# Altium footprint library 三极管.PcbLib: 9 footprints
Each footprint in its own frame and in the unit in brackets; x right, y up, seen from the top. Pads: shape width x height; smd on the part's side, far side on the other; paste and mask are expansions set on the pad; w line width, h text height; cw(c..) or ccw(c..) is an arc to the next point about the centre after c.
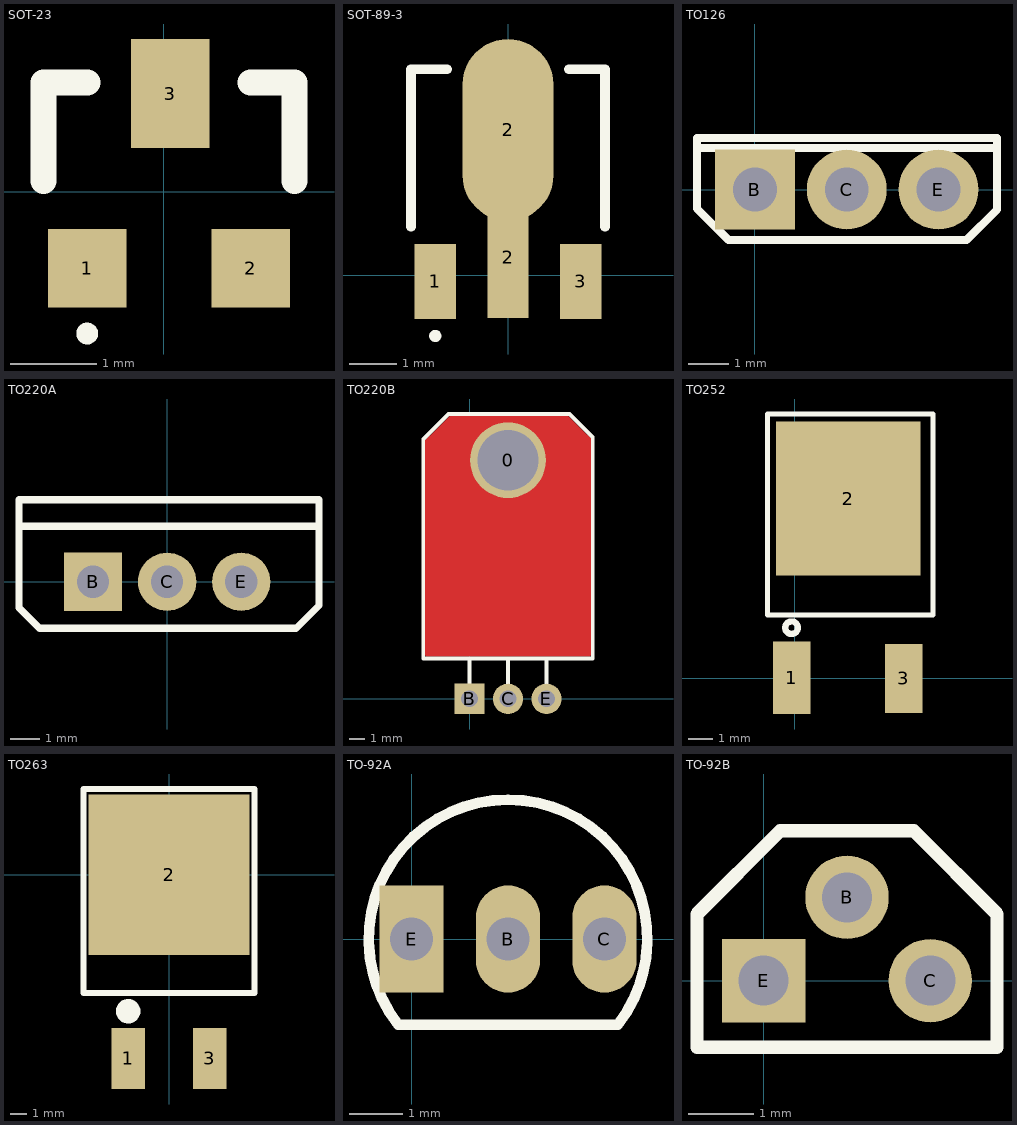
[diagram p0: the footprints below, top view; thin cyan lines are the x and y axes]

## SOT-23 [mil]
pads (3):
  rect 36x36 smd: 1(-35,-35) 2(40,-35)
  rect 36x50 smd: 3(3,45)
Top Overlay:
  circle w5: c-35,-65 r2.5
  lines w12: -55,5 -55,50 -35,50 ; 40,50 60,50 60,5
3D body "SOT-23-3.STEP": height 47.24, standoff 0, extent -54.08,-48.11 60.09,62.12

## SOT-89-3 [mil]
pads (4):
  rect 34x62 smd: 1(-60,-5) 3(60,-5)
  rect 34x100 smd: 2(0,15)
  oval 74.8x150 smd: 2(0,120)
Top Overlay:
  circle w5: c-60,-50 r2.5
  lines w8: -80,40 -80,170 -50,170 ; 50,170 80,170 80,40
3D body "SOT-89.STEP": height 59.45, standoff 0, extent -88.58,-12.99 88.59,156.3

## TO126 [mm] "126晶体管"
pads (3):
  rect 2x2 hole 1.1: B(0,0)
  round 2 hole 1.1: C(2.3,0) E(4.6,0)
Top Overlay:
  lines w0.2: -1.434,1.041 6.034,1.041 ; -1.452,-0.48 -0.664,-1.268 5.305,-1.268 6.067,-0.506 6.067,1.295 -1.452,1.295 -1.452,-0.48
3D body "23.STEP": height 15, standoff -4, extent -1.7,-1.27 6.3,1.53

## TO220A [mm] "220，3脚晶体管"
pads (3):
  rect 2x2 hole 1.1: B(-2.54,0)
  round 2 hole 1.1: C(0,0) E(2.54,0)
Top Overlay:
  lines w0.254: -4.928,1.905 5.131,1.905 ; -5.08,-0.889 -4.369,-1.6 4.42,-1.6 5.207,-0.813 5.207,2.819 -5.08,2.819 -5.08,-0.889
3D body "4.STEP": height 18.5, standoff -4, extent -5.08,-1.453 5.22,2.977

## TO220B [mm] "220，3脚晶体管"
pads (4):
  round 5 hole 4: 0(2.54,15.748)
  rect 2x2 hole 1.1: B(0,0)
  round 2 hole 1.1: C(2.54,0) E(5.08,0)
Top Layer:
  rectangle: 6.35,17.526 6.985,18.034
  rectangle: 6.985,16.891 7.683,17.335
  rectangle: -2.286,17.018 -2.032,17.526
  rectangle: -1.778,17.653 -1.27,18.034
  rectangle: -2.032,16.891 -1.27,17.653
  rectangle: 6.604,16.891 7.239,17.78
  rectangle: -1.27,16.891 6.604,18.542
  rectangle: -2.794,2.921 7.874,17.018
  lines w0.254: -2.667,16.891 -1.27,18.288 ; -2.286,17.018 -1.27,18.034 ; 6.477,18.288 7.366,17.272 7.874,17.018 7.239,17.526 ; -2.794,2.921 -2.54,2.921 7.874,2.921 7.874,3.429 7.874,17.145 7.493,17.526 6.477,18.542 5.969,18.542 -1.27,18.542 -2.286,17.526 -2.794,17.018 -2.794,16.637 -2.794,2.921
Top Overlay:
  lines w0.254: 0,0.737 0,2.667 ; 2.54,0.711 2.54,2.667 ; 5.08,0.686 5.08,2.667 ; -3.048,2.667 -3.048,17.145 -1.397,18.796 6.604,18.796 8.128,17.272 8.128,2.667 -3.048,2.667
3D body "14.STEP": height 4.43, standoff -3, extent -2.61,-0.254 7.69,18.496

## TO252 [mil] "DPAK"
pads (3):
  rect 60x115 smd: 1(-4.55,0.23)
  rect 230x245 smd: 2(85,285.35)
  rect 60x110 smd: 3(173.45,-0.77)
Top Overlay:
  circle w10: c-5,80 r10
  lines w7.87: -42.95,100 -42.95,147.56 -42.95,420 220,420 220,147.56 220,100 -42.95,100
3D body "DPAK_TO-252.STEP": height 93.31, standoff -1.18, extent -45.11,1.18 220,398.82

## TO263 [mm] "D2PAK"
pads (3):
  rect 2.1x3.8 smd: 1(-2.54,-11.45) 3(2.54,-11.45)
  rect 10x10 smd: 2(0,0)
Top Overlay:
  circle w0.762: c-2.54,-8.509 r0.381
  lines w0.381: -5.334,-7.366 -5.334,-5.588 -5.334,5.334 5.334,5.334 5.334,-5.588 5.334,-7.366 -5.334,-7.366
3D body "1.STEP": height 4.5, standoff 0, extent -4.92,-11.049 5.08,3.881

## TO-92A [mm]
height 5.33
pads (3):
  oval 1.2x2 hole 0.8: B(1.8,0) C(3.6,0)
  rect 1.2x2 hole 0.8: E(0,0)
Top Overlay:
  lines w0.2: -0.249,-1.601 cw(c1.8,0) 3.849,-1.601 ; -0.19,-1.6 3.79,-1.6
3D body "5.STEP": height 6.58, standoff -4.02, extent -0.5,-1.314 4.1,2.286

## TO-92B [mil]
pads (3):
  round 50 hole 30: B(50,50) C(100,0)
  rect 50x50 hole 30: E(0,0)
Top Overlay:
  lines w8: -40,-40 140,-40 140,40 90,90 10,90 -40,40 -40,-40
3D body "TO92.STEP": height 283.41, standoff -133.91, extent -40.55,-50 140.55,91.54